# EAGLE library part 4LED (library 4LED)
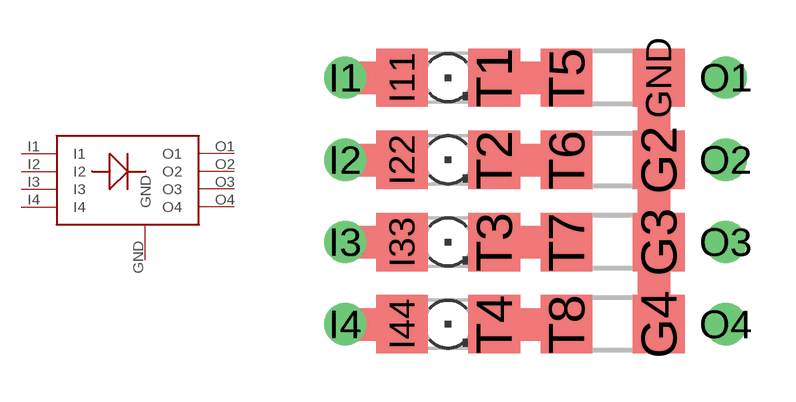
[diagram p0: symbol with the pads of LED4_1206; footprint LED4_1206]

Designator prefix -

## 4LED  [LED4_1206]
GND  GND
I1  I1
I2  I2
I3  I3
I4  I4
O1  O1
O2  O2
O3  O3
O4  O4

## Footprint LED4_1206 (pad centres in mm)
smd 1.6 x 1.803: G2 9.042,6.35; G3 9.042,3.81; G4 9.042,1.27; GND 9.042,8.89; I11 1.118,8.89; I22 1.118,6.35; I33 1.118,3.81; I44 1.118,1.27; T1 3.962,8.89; T2 3.962,6.35; T3 3.962,3.81; T4 3.962,1.27; T5 6.198,8.89; T6 6.198,6.35; T7 6.198,3.81; T8 6.198,1.27
drill 0.8: I1 -0.635,8.89; I2 -0.635,6.35; I3 -0.635,3.81; I4 -0.635,1.27; O1 11.113,8.89; O2 11.113,6.35; O3 11.113,3.81; O4 11.113,1.27